# Altium footprint library 0805_C.PcbLib: 1 footprints
Each footprint in its own frame and in the unit in brackets; x right, y up, seen from the top. Pads: shape width x height; smd on the part's side, far side on the other; paste and mask are expansions set on the pad; w line width, h text height; cw(c..) or ccw(c..) is an arc to the next point about the centre after c.
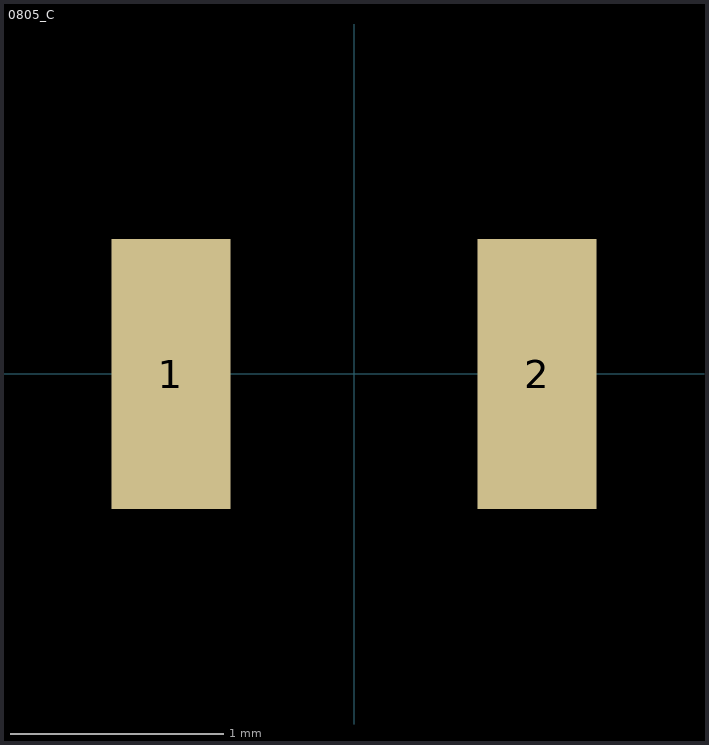
[diagram p0: the footprint, top view; thin cyan lines are the x and y axes]

## 0805_C [mil]
height 19.68
pads (2):
  rect 22x50 smd mask+0: 1(-33.86,0) 2(33.86,0)
3D body "Cap_Murata_GRM21BC71C106KE11L_eec.STEP": height 57.2, standoff 0, extent -39.37,-24.61 39.37,24.61